# Altium schematic symbol library My_Library.SchLib: 39 symbols
Pins are listed as number, name and electrical type; pins without a type are passive.

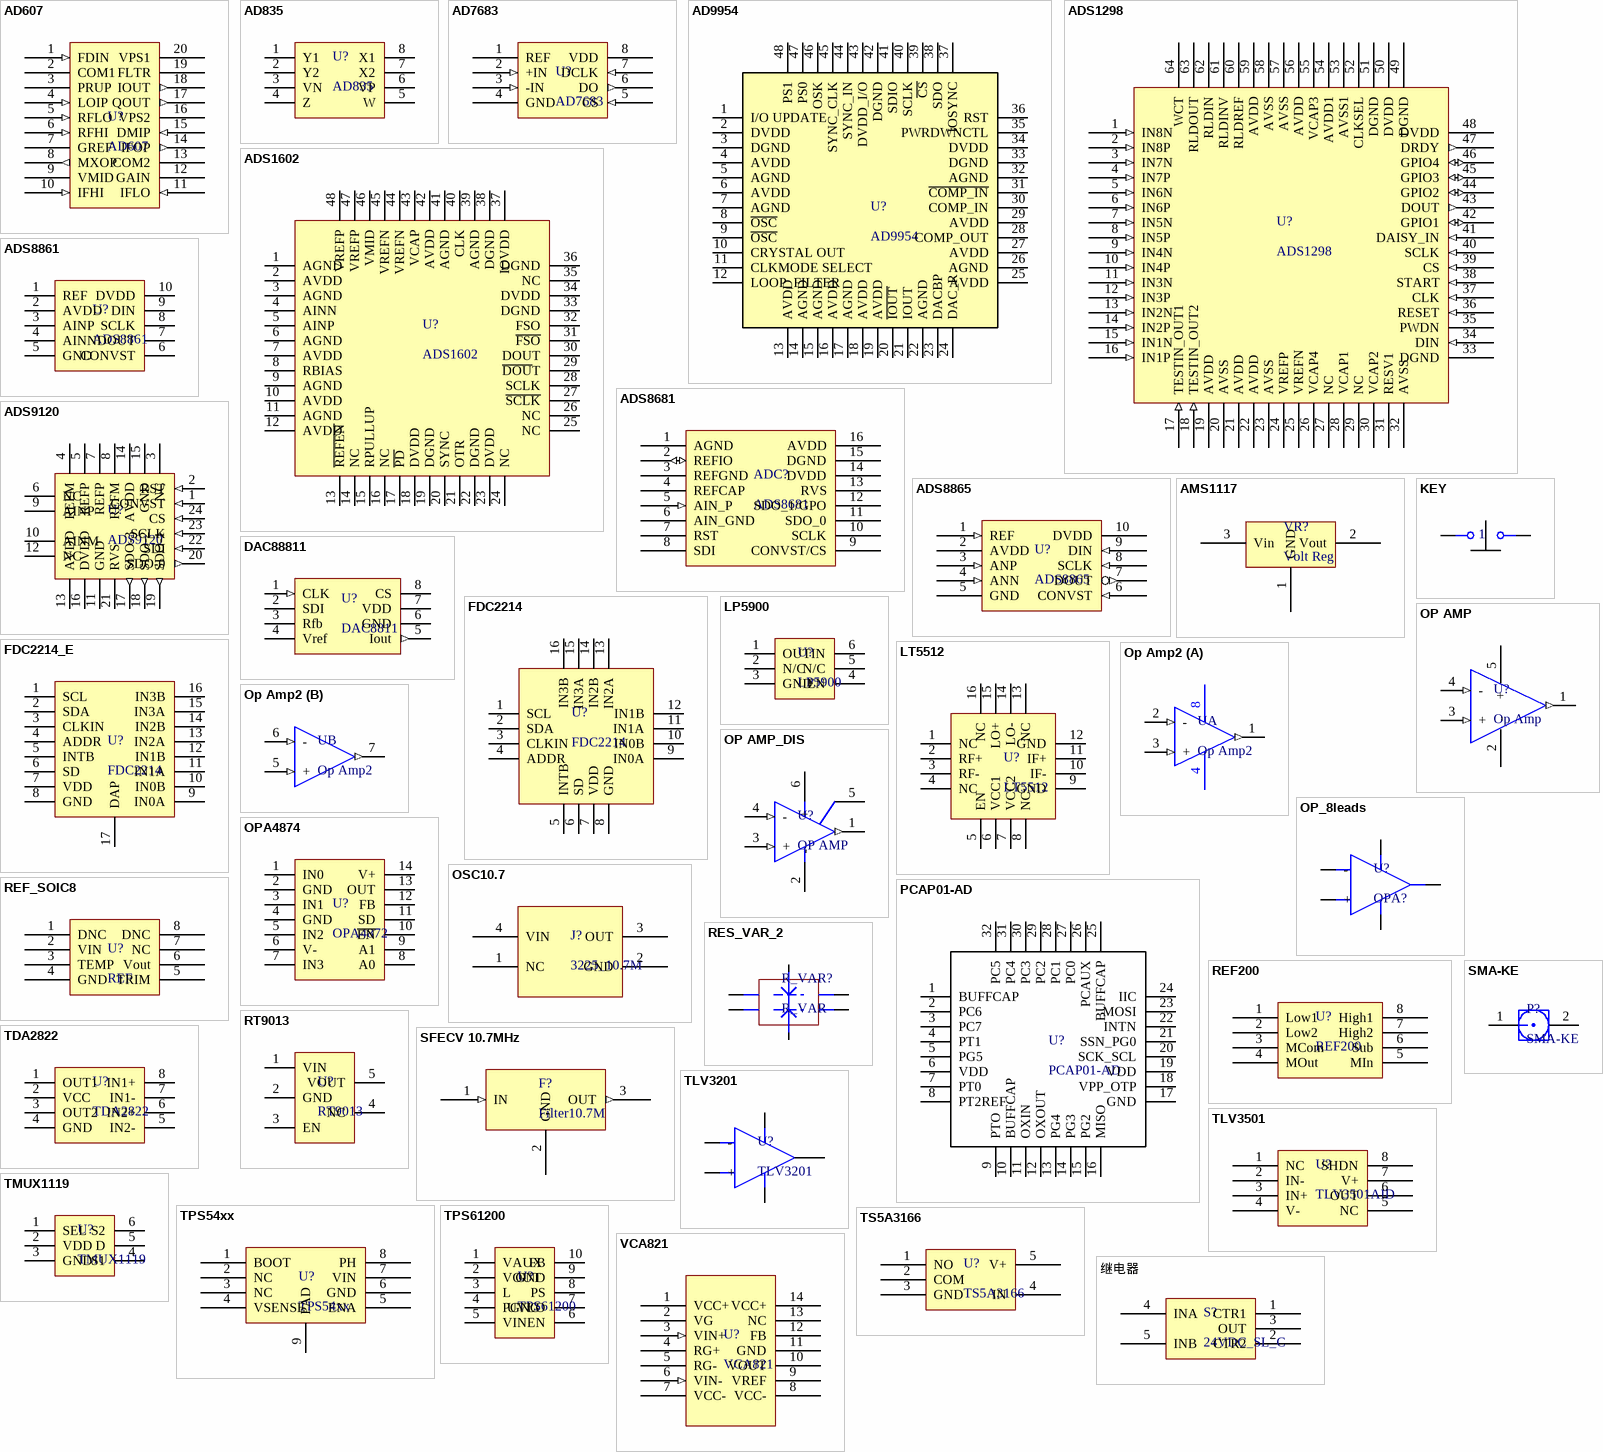
[diagram p0: symbols AD607 to 继电器]

## AD607
designator U?
Low Power Mixer / 3 V Receiver IF Subsystem
footprint SSOP_20
pins: 1 FDIN (in), 2 COM1, 3 PRUP, 4 LOIP (in), 5 RFLO (in), 6 RFHI (in), 7 GREF, 8 MXOP (out), 9 VMID, 10 IFHI (in), 11 IFLO (in), 12 GAIN, 13 COM2, 14 IFOP (out), 15 DMIP (in), 16 VPS2, 17 QOUT (out), 18 IOUT (out), 19 FLTR, 20 VPS1

## AD835
designator U?
250 MHz, Voltage Output, 4-Quadrant Multiplier
pins: 1 Y1, 2 Y2, 3 VN, 4 Z, 5 W, 6 VP, 7 X2, 8 X1

## AD7683
designator U?
16-Bit, 100 kSPS, Single-Ended / PulSAR ADC in MSOP/QFN
footprint MSOP_8 (MSOP, 8-Leads, Body 3mmx3mm, Pitch 0,65mm)
pins: 1 REF, 2 +IN (in), 3 -IN (in), 4 GND, 5 CS (in), 6 DO (out), 7 DCLK (in), 8 VDD

## AD9954
designator U?
400 MSPS, 14-Bit, 1.8 V CMOS, / Direct Digital Synthesizer
pins: 1 I/O UPDATE, 2 DVDD, 3 DGND, 4 AVDD, 5 AGND, 6 AVDD, 7 AGND, 8 ~{OSC}, 9 ~{OSC}, 10 CRYSTAL OUT, 11 CLKMODE SELECT, 12 LOOP_FILTER, 13 AVDD, 14 AGND, 15 AGND, 16 AVDD, 17 AGND, 18 AVDD, 19 AVDD, 20 ~{IOUT}, 21 IOUT, 22 AGND, 23 DACBP, 24 DAC_R, 25 AVDD, 26 AGND, 27 AVDD, 28 COMP_OUT, 29 AVDD, 30 COMP_IN, 31 ~{COMP_IN}, 32 AGND, 33 DGND, 34 DVDD, 35 PWRDWNCTL, 36 RST, 37 IOSYNC, 38 SDO, 39 ~{CS}, 40 SCLK, 41 SDIO, 42 DGND, 43 DVDD_I/O, 44 SYNC_IN, 45 SYNC_CLK, 46 OSK, 47 PS0, 48 PS1

## ADS1298
designator U?
ADS129x Low-Power, 8-Channel, 24-Bit Analog Front-End for Biopotential Measurements
pins: 1 IN8N (in), 2 IN8P (in), 3 IN7N (in), 4 IN7P (in), 5 IN6N (in), 6 IN6P (in), 7 IN5N (in), 8 IN5P (in), 9 IN4N (in), 10 IN4P (in), 11 IN3N (in), 12 IN3P (in), 13 IN2N (in), 14 IN2P (in), 15 IN1N (in), 16 IN1P (in), 17 TESTIN_OUT1 (in), 18 TESTIN_OUT2 (in), 19 AVDD, 20 AVSS, 21 AVDD, 22 AVDD, 23 AVSS, 24 VREFP, 25 VREFN, 26 VCAP4, 27 NC, 28 VCAP1, 29 NC, 30 VCAP2, 31 RESV1, 32 AVSS, 33 DGND, 34 DIN (in), 35 PWDN, 36 RESET (in), 37 CLK (in), 38 START (in), 39 CS (in), 40 SCLK (in), 41 DAISY_IN (in), 42 GPIO1 (io), 43 DOUT (out), 44 GPIO2 (io), 45 GPIO3 (io), 46 GPIO4 (io), 47 DRDY (out), 48 DVDD, 49 DGND, 50 DVDD, 51 DGND, 52 CLKSEL, 53 AVSS1, 54 AVDD1, 55 VCAP3, 56 AVDD, 57 AVSS, 58 AVSS, 59 AVDD, 60 RLDREF, 61 RLDINV, 62 RLDIN, 63 RLDOUT, 64 WCT

## ADS1602
designator U?
16-Bit, 2.5MSPS Analog-to-Digital Converter
pins: 1 AGND, 2 AVDD, 3 AGND, 4 AINN, 5 AINP, 6 AGND, 7 AVDD, 8 RBIAS, 9 AGND, 10 AVDD, 11 AGND, 12 AVDD, 13 ~{REFEN}, 14 NC, 15 RPULLUP, 16 NC, 17 ~{PD}, 18 DVDD, 19 DGND, 20 SYNC, 21 OTR, 22 DGND, 23 DVDD, 24 NC, 25 NC, 26 NC, 27 ~{SCLK}, 28 SCLK, 29 ~{DOU}T, 30 DOUT, 31 ~{FSO}, 32 FSO, 33 DGND, 34 DVDD, 35 NC, 36 DGND, 37 IOVDD, 38 DGND, 39 AGND, 40 CLK, 41 AGND, 42 AVDD, 43 VCAP, 44 VREFN, 45 VREFN, 46 VMID, 47 VREFP, 48 VREFP

## ADS8681
designator ADC?
16-Bit, High-Speed, Single-Supply, SAR ADC Data Acquisition System / With Programmable, Bipolar Input Ranges
footprint QFN16 4x4 (QFN)
pins: 1 AGND, 2 REFIO (io), 3 REFGND, 4 REFCAP, 5 AIN_P (in), 6 AIN_GND, 7 RST, 8 SDI, 9 CONVST/CS, 10 SCLK, 11 SDO_0, 12 SDO_1/GPO, 13 RVS, 14 DVDD, 15 DGND, 16 AVDD

## ADS8861
designator U?
16 位，1MSPS，串口，微功耗，微型， 差分输入，逐次逼近寄存器 (SAR) 模数转换器
footprint SSOP10 3x3 (VSSOP, 10-Leads, Body 3mmx3mm, Pitch 0,5mm)
pins: 1 REF, 2 AVDD, 3 AINP, 4 AINN, 5 GND, 6 CONVST, 7 DOUT, 8 SCLK, 9 DIN, 10 DVDD

## ADS8865
designator U?
16-Bit, 400-kSPS, Serial Interface, microPower, Miniature, / True-Differential Input, SAR Analog-to-Digital Converter
footprint SSOP10 3x3 (VSSOP, 10-Leads, Body 3mmx3mm, Pitch 0,5mm)
pins: 1 REF (in), 2 AVDD, 3 ANP (in), 4 ANN (in), 5 GND, 6 CONVST (in), 7 DOUT (out), 8 SCLK (in), 9 DIN (in), 10 DVDD

## ADS9120
designator U?
16 位、2.5MSPS、15.5mW、SAR ADC，具有 multiSPI™接口
footprint QFN24 4x4 (VQFN, 24-Leads, Body 4mmx4mm, Pitch 0,5mm)
pins: 1 CONVST (in), 2 RST (in), 3 NC, 4 REFM, 5 REFP, 6 NC, 7 REFP, 8 REFM, 9 AINP, 10 AINM, 11 GND, 12 NC, 13 AVDD, 14 AVDD, 15 GND, 16 DVDD, 17 SDO-3 (out), 18 SDO-2 (out), 19 SDO-1 (out), 20 SDO-0 (out), 21 RVS, 22 SDI (in), 23 SCLK (in), 24 CS (in)

## AMS1117
designator VR?, comment Volt Reg
Voltage Regulator
footprint SOT-223
footprint SOT-223
pins: 1 GND, 2 Vout, 3 Vin

## DAC88811
designator U?, comment DAC8811
16-Bit, Serial Input Multiplying Digital-to-Analog Converter
footprint MSOP_8 (MSOP, 8-Leads, Body 3mmx3mm, Pitch 0,65mm)
pins: 1 CLK (in), 2 SDI, 3 Rfb, 4 Vref, 5 Iout (out), 6 GND, 7 VDD, 8 CS

## FDC2214
designator U?
footprint QFN16 4x4 (QFN)
pins: 1 SCL, 2 SDA, 3 CLKIN, 4 ADDR, 5 INTB, 6 SD, 7 VDD, 8 GND, 9 IN0A, 10 IN0B, 11 IN1A, 12 IN1B, 13 IN2A, 14 IN2B, 15 IN3A, 16 IN3B

## FDC2214_E
designator U?, comment FDC2214
pins: 1 SCL, 2 SDA, 3 CLKIN, 4 ADDR, 5 INTB, 6 SD, 7 VDD, 8 GND, 9 IN0A, 10 IN0B, 11 IN1A, 12 IN1B, 13 IN2A, 14 IN2B, 15 IN3A, 16 IN3B, 17 DAP

## KEY
designator 1
footprint KEY
pins: 1, 2

## LP5900
designator U?
150-mA Ultra-Low-Noise LDO for RF and Analog Circuits - / Requires No Bypass Capacitor
footprint WSON6 2.5x2.2
pins: 1 OUT, 2 N/C, 3 GND, 4 EN, 5 N/C, 6 IN

## LT5512
designator U?

footprint QFN16 4x4 (QFN)
pins: 1 NC, 2 RF+, 3 RF-, 4 NC, 5 EN, 6 VCC1, 7 VCC2, 8 NC, 9 GND, 10 IF-, 11 IF+, 12 GND, 13 NC, 14 LO-, 15 LO+, 16 NC

## OP AMP
designator U?, comment Op Amp
5 leads，General OP AMP
footprint SOT23-5
pins: 1 (out), 2 -, 3 + (in), 4 - (in), 5 +

## Op Amp2
designator U
2 Op Amp
footprint SSOP8 (3*6.4*1.2mm（蒜米工坊）)
footprint MSOP_8 (MSOP, 8-Leads, Body 3mmx3mm, Pitch 0,65mm)
footprint SOP8
footprint TSSOP8
part A pins: 1 (out), 2 - (in), 3 + (in), 4, 8
part B pins: 5 + (in), 6 - (in), 7 (out)

## OP AMP_DIS
designator U?, comment OP AMP
footprint SOT23-6
pins: 1 (out), 2 -, 3 + (in), 4 - (in), 5, 6 +

## OP_8leads
designator U?, comment OPA?
footprint SOP8
pins: 2 -, 3 +, 4, 6, 7

## OPA4874
designator U?, comment OPA4872
4:1 High-Speed Multiplexer
footprint SOP14
pins: 1 IN0, 2 GND, 3 IN1, 4 GND, 5 IN2, 6 V-, 7 IN3, 8 A0, 9 A1, 10 ~{EN}, 11 SD, 12 FB, 13 OUT, 14 V+

## OSC10.7
designator J?, comment 3225_10.7M
10.7M
footprint OSC 3225
pins: 1 NC, 2 GND, 3 OUT, 4 VIN

## PCAP01-AD
designator U?
footprint QFN32 5x5
pins: 1 BUFFCAP, 2 PC6, 3 PC7, 4 PT1, 5 PG5, 6 VDD, 7 PT0, 8 PT2REF, 9 PTO, 10 BUFFCAP, 11 OXIN, 12 OXOUT, 13 PG4, 14 PG3, 15 PG2, 16 MISO, 17 GND, 18 VPP_OTP, 19 VDD, 20 SCK_SCL, 21 SSN_PG0, 22 INTN, 23 MOSI, 24 IIC, 25 BUFFCAP, 26 PCAUX, 27 PC0, 28 PC1, 29 PC2, 30 PC3, 31 PC4, 32 PC5

## REF200
designator U?
REF200 Dual Current Source and Current Sinkp
footprint SOP8
pins: 1 Low1, 2 Low2, 3 MCom, 4 MOut, 5 MIn, 6 Sub, 7 High2, 8 High1

## REF_SOIC8
designator U?, comment REF
footprint SOIC-8
pins: 1 DNC, 2 VIN, 3 TEMP, 4 GND, 5 TRIM, 6 Vout, 7 NC, 8 DNC

## RES_VAR_2
designator R_VAR?, comment R_VAR
footprint 电位器-09-2
pins: 1, 2, 3, 4, 5, 6

## RT9013
designator U?
3.3V 500mA
footprint SOT23-5
pins: 1 VIN, 2 GND, 3 EN, 4 NC, 5 VOUT

## SFECV 10.7MHz
designator F?, comment Filter10.7M
10.7M
footprint SFECV10.7MHz
pins: 1 IN (in), 2 GND, 3 OUT (out)

## SMA-KE
designator P?
正脚立式
footprint SMA-KE (SMA直立式)
pins: 1, 2

## TDA2822
designator U?
footprint SOP8
pins: 1 OUT1, 2 VCC, 3 OUT2, 4 GND, 5 IN2-, 6 IN2+, 7 IN1-, 8 IN1+

## TLV3201
designator U?
40ns、微功耗、推挽输出比较器
footprint SOT23-5
pins: 1, 2, 3 +, 4 -, 5

## TLV3501
designator U?, comment TLV3501AID
TLV350x 4.5-ns, Rail-to-Rail, High-Speed Comparator in Microsize Packages
footprint SOIC-8
pins: 1 NC, 2 IN-, 3 IN+, 4 V-, 5 NC, 6 OUT, 7 V+, 8 SHDN

## TMUX1119
designator U?
TMUX1119 5-V, Low-Leakage-Current, 2:1 Precision Multiplexer
footprint DCK_6
pins: 1 SEL, 2 VDD, 3 GND, 4 S1, 5 D, 6 S2

## TPS54xx
designator U?
Wide Input Range, Step-Down Converter
footprint SOP8_PAD
pins: 1 BOOT, 2 NC, 3 NC, 4 VSENSE, 5 ENA, 6 GND, 7 VIN, 8 PH, 9 PAD

## TPS61200
designator U?
TPS6120x 具有 1.3A 开关的低输入电压同步升压转换器
footprint WSON_10 (3*3mm,10pins,0.5x8)
pins: 1 VAUX, 2 VOUT, 3 L, 4 PGNG, 5 VIN, 6 EN, 7 UVLO, 8 PS, 9 GND, 10 FB

## TS5A3166
designator U?
TS5A3166 0.9Ω SPST 模拟开关
footprint SOT23-5
pins: 1 NO, 2 COM, 3 GND, 4 IN, 5 V+

## VCA821
designator U?
Ultra-Wideband, > 40-dB Gain Adjust Range, Linear in dB / Variable Gain Amplifier
footprint SOIC_14
pins: 1 VCC+, 2 VG, 3 VIN+ (in), 4 RG+, 5 RG-, 6 VIN- (in), 7 VCC-, 8 VCC-, 9 VREF, 10 VOUT, 11 GND, 12 FB, 13 NC, 14 VCC+

## 继电器
designator S?, comment 24VDC_SL_C
footprint SRD-C_B (单刀双投)
pins: 1 CTR1, 2 CTR2, 3 OUT, 4 INA, 5 INB